# Altium footprint library NS12555.PcbLib: 1 footprints
Each footprint in its own frame and in the unit in brackets; x right, y up, seen from the top. Pads: shape width x height; smd on the part's side, far side on the other; paste and mask are expansions set on the pad; w line width, h text height; cw(c..) or ccw(c..) is an arc to the next point about the centre after c.
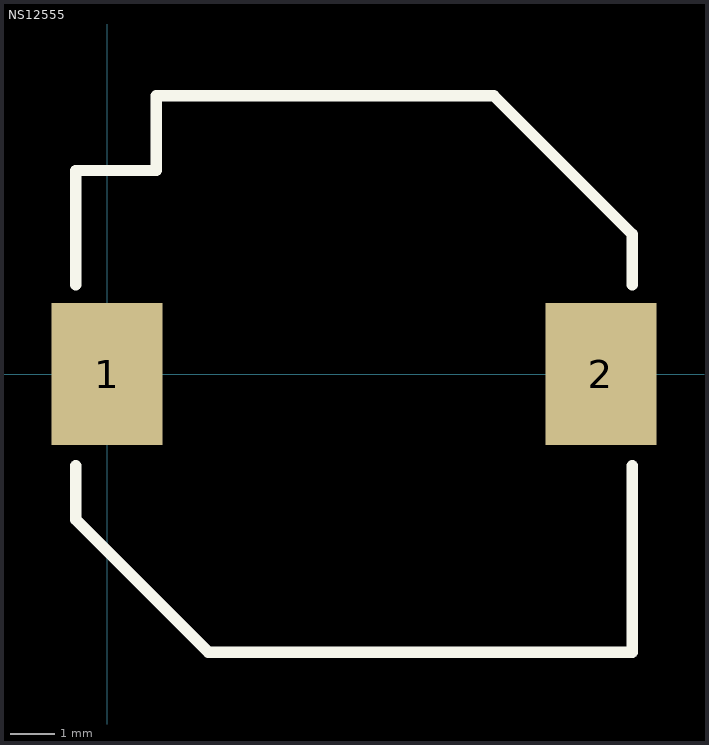
[diagram p0: the footprint, top view; thin cyan lines are the x and y axes]

## NS12555 [mm]
pads (2):
  rect 2.5x3.2 smd: 1(0,0) 2(11.1,0)
Top Overlay:
  lines w0.254: -0.7,-2.059 -0.7,-3.275 2.275,-6.25 11.8,-6.25 11.8,-2.059 ; -0.7,2.005 -0.7,4.572 1.105,4.572 1.105,6.25 8.698,6.25 11.8,3.148 11.8,2.005